# Altium footprint library DIP-T  0607.PCBlib: 108 footprints (part 5 of 7)
Each footprint in its own frame and in the unit in brackets; x right, y up, seen from the top. Pads: shape width x height; smd on the part's side, far side on the other; paste and mask are expansions set on the pad; w line width, h text height; cw(c..) or ccw(c..) is an arc to the next point about the centre after c.
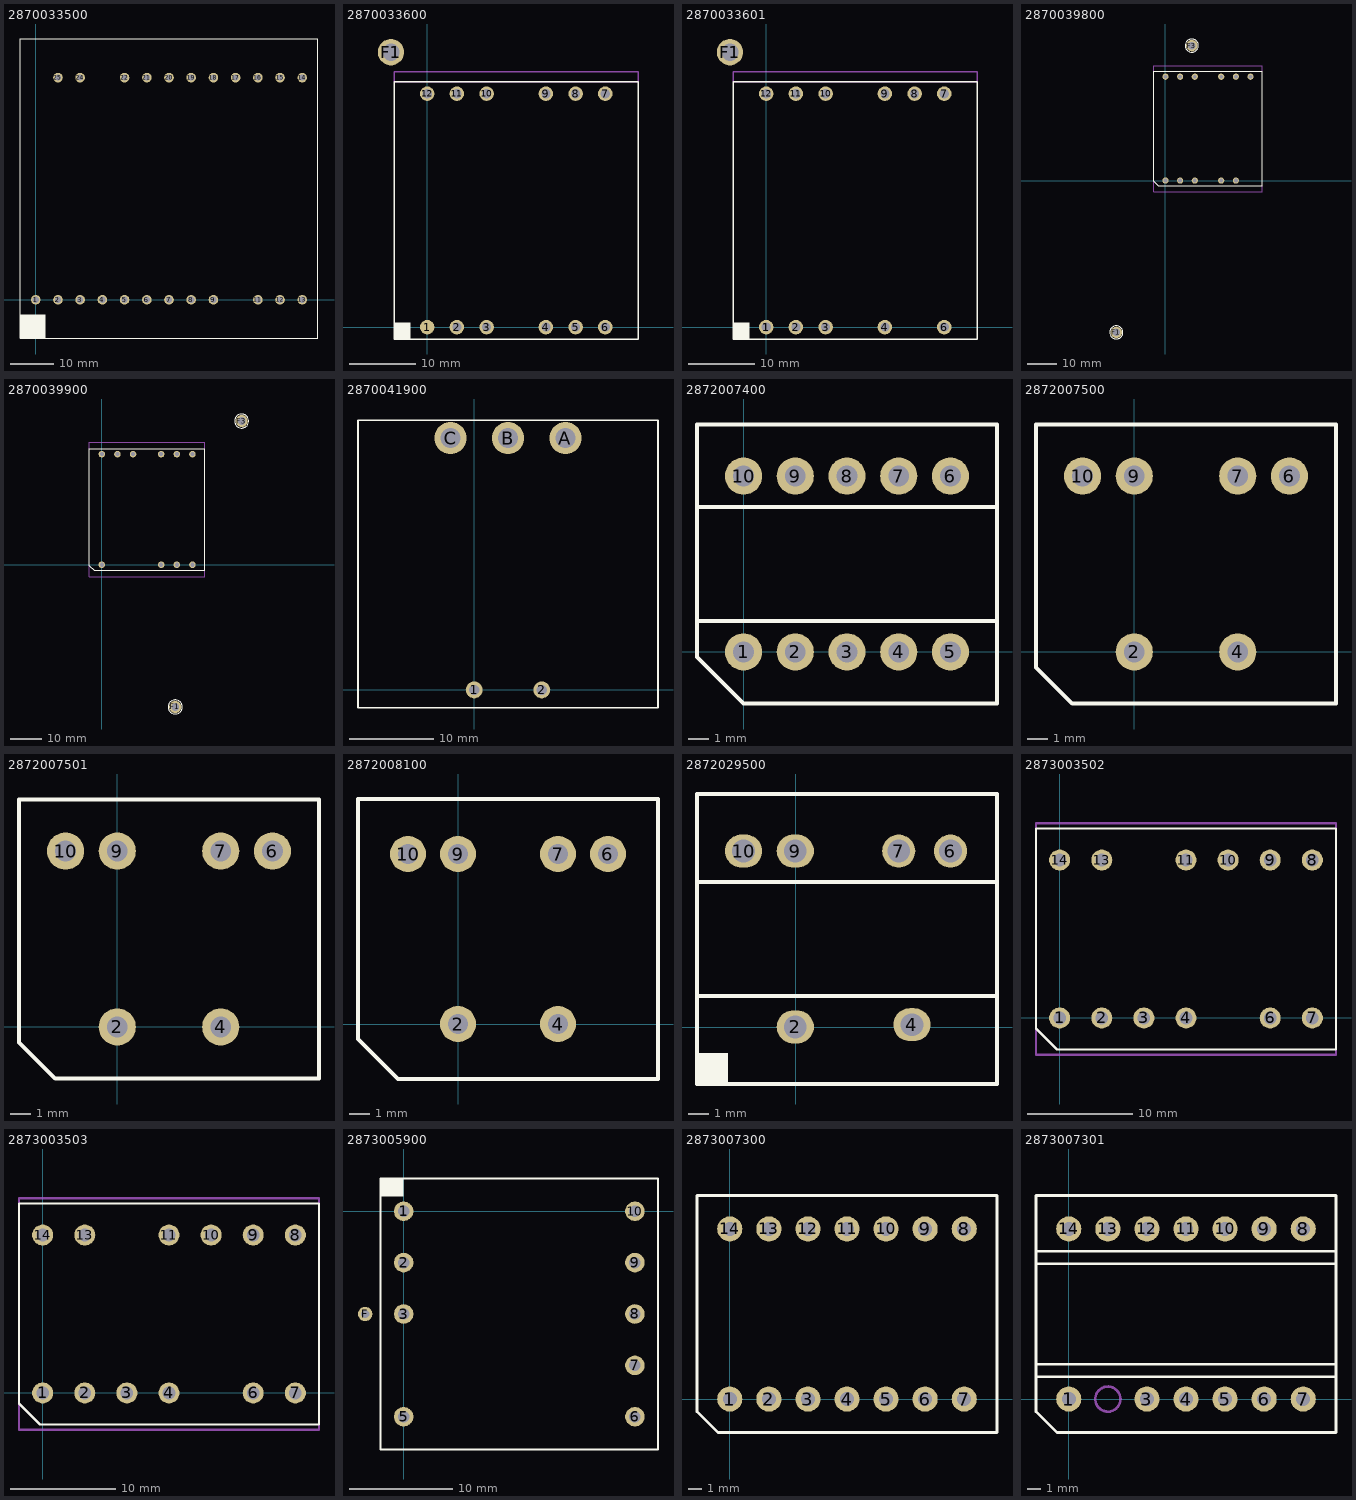
[diagram p4: the footprints below, top view; thin cyan lines are the x and y axes]

## 2870033500 [mm]
height 56
pads (23):
  round 2.2 hole 1.4: 1(0,0) 2(5.08,0) 3(10.16,0) 4(15.24,0) 5(20.32,0) 6(25.4,0) 7(30.48,0) 8(35.56,0) 9(40.64,0) 11(50.8,0) 12(55.88,0) 13(60.96,0) 14(60.96,50.8) 15(55.88,50.8) 16(50.8,50.8) 17(45.72,50.8) 18(40.64,50.8) 19(35.56,50.8) 20(30.48,50.8) 21(25.4,50.8) 22(20.32,50.8) 24(10.16,50.8) 25(5.08,50.8)
Top Overlay:
  region: 2.23,-8.85 2.23,-3.35 -3.52,-3.35 -3.52,-8.85
  lines w0.2: -3.52,-8.85 -0.27,-8.85 64.48,-8.85 64.48,59.65 -3.52,59.65 -3.52,-8.85

## 2870033600 [mm]
height 32
pads (13):
  round 2.2 smd: 1(0,0)
  round 2.2 hole 1.4: 2(4.5,0) 3(9,0) 4(18,0) 5(22.5,0) 6(27,0) 7(27,35.4) 8(22.5,35.4) 9(18,35.4) 10(9,35.4) 11(4.5,35.4) 12(0,35.4)
  round 4 hole 2.6: F1(-5.5,41.7)
Top Overlay:
  rectangle: -5,-1.8 -2.5,0.7
  lines w0.2: -5,-1.8 -5,37.2 32,37.2 32,-1.8 -5,-1.8
Mechanical 7:
  lines w0.2: -5,37.2 -5,38.7 32,38.7 32,37.2 -5,37.2

## 2870033601 [mm]
height 32
pads (13):
  round 2.2 smd: 1(0,0)
  round 2.2 hole 1.4: 1(0,0) 2(4.5,0) 3(9,0) 4(18,0) 6(27,0) 7(27,35.4) 8(22.5,35.4) 9(18,35.4) 10(9,35.4) 11(4.5,35.4) 12(0,35.4)
  round 4 hole 2.6: F1(-5.5,41.7)
Top Overlay:
  rectangle: -5,-1.8 -2.5,0.7
  lines w0.2: -5,-1.8 32,-1.8 32,37.2 -5,37.2 -5,-1.8
Mechanical 7:
  lines w0.2: -5,37.2 32,37.2 32,38.7 -5,38.7 -5,37.2

## 2870039800 [mm]
height 38.5
pads (13):
  round 2.1 hole 1.3: 1(0,0) 2(5,0) 3(10,0) 4(19,0) 5(24,0) 7(29,35.4) 8(24,35.4) 9(19,35.4) 10(10,35.4) 11(5,35.4) 12(0,35.4)
  round 3.9 hole 2.5: F1(-16.75,-51.75) F3(9,46)
Top Overlay:
  circle w0.2: c9,46 r2.25
  circle w0.2: c-16.75,-51.75 r2.25
  lines w0.2: -4,-0.3 -4,37.2 33,37.2 33,-1.8 -2.5,-1.8 -4,-0.3
Mechanical 7:
  lines w0.2: -4,-0.3 -4,-3.8 33,-3.8 33,-1.8 ; -4,37.2 -4,39.2 33,39.2 33,37.2

## 2870039900 [mm]
height 38.5
pads (12):
  round 2.1 hole 1.3: 1(0,0) 4(19,0) 5(24,0) 6(29,0) 7(29,35.4) 8(24,35.4) 9(19,35.4) 10(10,35.4) 11(5,35.4) 12(0,35.4)
  round 3.9 hole 2.5: F1(23.5,-45.5) F3(44.75,46)
Top Overlay:
  circle w0.2: c23.5,-45.5 r2.25
  circle w0.2: c44.75,46 r2.25
  lines w0.2: -4,-0.3 -2.5,-1.8 33,-1.8 33,37.2 -4,37.2 -4,-0.3
Mechanical 7:
  lines w0.2: -4,-0.3 -4,-3.8 33,-3.8 33,-1.8 ; -4,37.2 -4,39.2 33,39.2 33,37.2

## 2870041900 [mm]
height 30
pads (5):
  round 2 hole 1.2: 1(0,0) 2(8,0)
  round 3.8 hole 2.4: A(10.8,29.8) B(4,29.8) C(-2.8,29.8)
Top Overlay:
  lines w0.2: -13.75,-2.1 21.75,-2.1 21.75,31.9 -13.75,31.9 -13.75,-2.1

## 2872007400 [mm]
height 17.5
pads (10):
  round 1.8 hole 1: 1(0,0) 2(2.5,0) 3(5,0) 4(7.5,0) 5(10,0) 6(10,8.5) 7(7.5,8.5) 8(5,8.5) 9(2.5,8.5) 10(0,8.5)
Top Overlay:
  lines w0.2: -2.25,1.5 12.25,1.5 ; -2.25,7 12.25,7 ; -2.25,-0.25 -2.25,11 12.25,11 12.25,-2.5 0,-2.5 -2.25,-0.25

## 2872007500 [mm]
height 17.5
pads (6):
  round 1.8 hole 1: 2(0,0) 4(5,0) 6(7.5,8.5) 7(5,8.5) 9(0,8.5) 10(-2.5,8.5)
Top Overlay:
  lines w0.2: -4.75,-0.75 -4.75,11 9.75,11 9.75,-2.5 -3,-2.5 -4.75,-0.75

## 2872007501 [mm]
height 17.5
pads (6):
  round 1.8 hole 1: 2(0,0) 4(5,0) 6(7.5,8.5) 7(5,8.5) 9(0,8.5) 10(-2.5,8.5)
Top Overlay:
  lines w0.2: -4.75,-0.75 -3,-2.5 9.75,-2.5 9.75,11 -4.75,11 -4.75,-0.75

## 2872008100 [mm]
height 19
pads (6):
  round 1.8 hole 1: 2(0,0) 4(5,0) 6(7.5,8.5) 7(5,8.5) 9(0,8.5) 10(-2.5,8.5)
Top Overlay:
  lines w0.2: -5,-0.75 -5,11.25 10,11.25 10,-2.75 -3,-2.75 -5,-0.75

## 2872029500 [mm]
pads (6):
  oval 1.8x1.6 hole 1.1: 2(-0.019,0.02) 4(5.621,0.128) 9(-0.019,8.52) 10(-2.519,8.52)
  round 1.6 hole 1.1: 6(7.481,8.52) 7(4.981,8.52)
Top Overlay:
  rectangle: -4.768,-2.73 -3.268,-1.23
  lines w0.2: -4.769,1.52 9.731,1.52 ; -4.769,7.02 9.731,7.02 ; -4.769,-2.73 -4.769,11.27 9.731,11.27 9.731,-2.73 -4.769,-2.73

## 2873003502 [mm]
height 36
pads (12):
  round 2 hole 1.2: 1(0,0) 2(4,0) 3(8,0) 4(12,0) 6(20,0) 7(24,0) 8(24,15) 9(20,15) 10(16,15) 11(12,15) 13(4,15) 14(0,15)
Top Overlay:
  lines w0.2: -2.25,-1 -0.25,-3 26.25,-3 26.25,18 -2.25,18 -2.25,-1
Mechanical 7:
  lines w0.2: -2.25,-1 -2.25,-3.5 26.25,-3.5 26.25,-3 ; -2.25,18 -2.25,18.5 26.25,18.5 26.25,18

## 2873003503 [mm]
height 36
pads (12):
  round 2 hole 1.2: 1(0,0) 2(4,0) 3(8,0) 4(12,0) 6(20,0) 7(24,0) 8(24,15) 9(20,15) 10(16,15) 11(12,15) 13(4,15) 14(0,15)
Top Overlay:
  lines w0.2: -2.25,-1 -2.25,18 26.25,18 26.25,-3 -0.25,-3 -2.25,-1
Mechanical 7:
  lines w0.2: -2.25,-1 -2.25,-3.5 26.25,-3.5 26.25,-3 ; -2.25,18 -2.25,18.5 26.25,18.5 26.25,18

## 2873005900 [mm]
height 17
pads (10):
  round 1.9 hole 1.1: 1(0,0) 2(0,-5) 3(0,-10) 5(0,-20) 6(22.5,-20) 7(22.5,-15) 8(22.5,-10) 9(22.5,-5) 10(22.5,0)
  round 1.4 hole 0.8: F(-3.75,-10)
Top Overlay:
  rectangle: -2.25,1.45 0,3.2
  lines w0.2: -2.25,-23.2 -2.25,3.2 24.75,3.2 24.75,-23.2 -2.25,-23.2

## 2873007300 [mm]
height 23.5
pads (14):
  round 1.8 hole 1: 1(0,0) 2(2.8,0) 3(5.6,0) 4(8.4,0) 5(11.2,0) 6(14,0) 7(16.8,0) 8(16.8,12.2) 9(14,12.2) 10(11.2,12.2) 11(8.4,12.2) 12(5.6,12.2) 13(2.8,12.2) 14(0,12.2)
Top Overlay:
  lines w0.2: -2.35,-0.9 -2.35,14.6 19.15,14.6 19.15,-2.4 -0.85,-2.4 -2.35,-0.9

## 2873007301 [mm]
height 23.5
pads (13):
  round 1.8 hole 1: 1(0,0) 3(5.6,0) 4(8.4,0) 5(11.2,0) 6(14,0) 7(16.8,0) 8(16.8,12.2) 9(14,12.2) 10(11.2,12.2) 11(8.4,12.2) 12(5.6,12.2) 13(2.8,12.2) 14(0,12.2)
Top Overlay:
  lines w0.2: -2.35,1.6 19.15,1.6 ; -2.35,2.5 19.15,2.5 ; -2.35,9.7 19.15,9.7 ; -2.35,10.6 19.15,10.6 ; -2.35,-0.9 -0.85,-2.4 19.15,-2.4 19.15,14.6 -2.35,14.6 -2.35,-0.9
Mechanical 7:
  circle w0.2: c2.8,0 r0.9